# Altium integrated library TC74.IntLib: 1 symbol
Pins are listed as number, name and electrical type; pins without a type are passive.

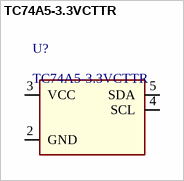
[diagram p0: symbol TC74A5-3.3VCTTR]

## TC74A5-3.3VCTTR
designator U?
PDF: http://www.microchip.com/mymicrochip/filehandler.aspx?ddocname=en011621; BUY_LINK: http://www.digikey.com/product-detail/en/TC74A5-3.3VCTTR/TC74A5-3.3VCTCT-ND/459180; PRICE: 1.04000; ID: TC74A5-3.3VCTTR
footprint SOT23-5
pins: 2 GND, 3 VCC, 4 SCL, 5 SDA